# EAGLE library part DEBUG (library PPMK_MSP430FR6989)
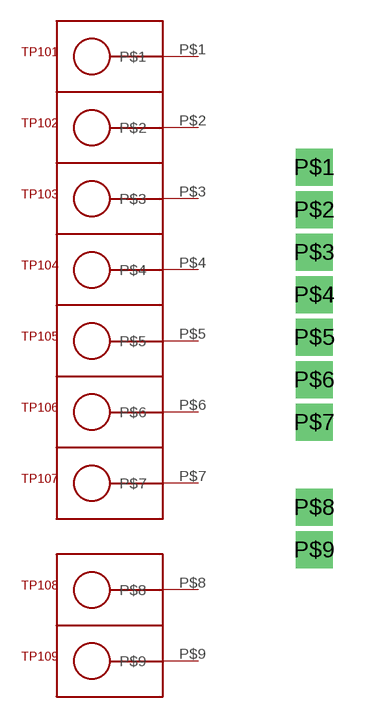
[diagram p7: symbol with the pads of DEBUG; footprint DEBUG]

Designator prefix -

## DEBUG  [DEBUG]
P$1  P$1
P$2  P$2
P$3  P$3
P$4  P$4
P$5  P$5
P$6  P$6
P$7  P$7
P$8  P$8
P$9  P$9

## Footprint DEBUG (pad centres in mm)
drill 0.6 square: P$1 -2.54,8.89; P$2 -2.54,7.62; P$3 -2.54,6.35; P$4 -2.54,5.08; P$5 -2.54,3.81; P$6 -2.54,2.54; P$7 -2.54,1.27; P$8 -2.54,-1.27; P$9 -2.54,-2.54